# Altium footprint library MLACHT_Z.PCBLIB: 150 footprints (part 10 of 10)
Each footprint in its own frame and in the unit in brackets; x right, y up, seen from the top. Pads: shape width x height; smd on the part's side, far side on the other; paste and mask are expansions set on the pad; w line width, h text height; cw(c..) or ccw(c..) is an arc to the next point about the centre after c.
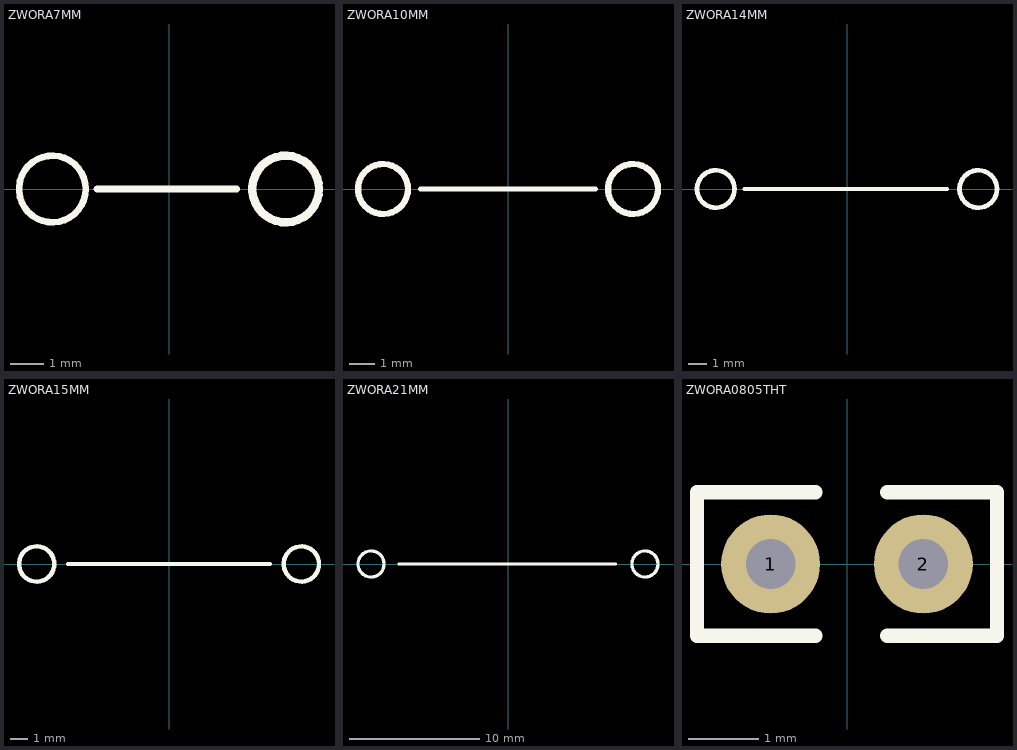
[diagram p9: the footprints below, top view; thin cyan lines are the x and y axes]

## ZWORA7MM [mil]
TopOverlay:
  circle w10: c137.8,0 r39.37
  circle w7.87: c-137.8,0 r39.37
  lines w7.87: -85,0 80,0

## ZWORA10MM [mil]
TopOverlay:
  circle w10: c196.85,0 r39.37
  circle w10: c-196.85,0 r39.37
  lines w7.87: -137.8,0 137.8,0

## ZWORA14MM [mil]
TopOverlay:
  circle w10: c275.59,0 r39.37
  circle w10: c-275.59,0 r39.37
  lines w7.87: -215,0 210,0

## ZWORA15MM [mil]
TopOverlay:
  circle w10: c295.28,0 r39.37
  circle w10: c-295.28,0 r39.37
  lines w7.87: -226.38,0 226.38,0

## ZWORA21MM [mil]
TopOverlay:
  circle w10: c-413.39,0 r39.37
  circle w10: c413.39,0 r39.37
  lines w7.87: -330,0 325,0

## ZWORA0805THT [mm]
pads (2):
  round 1.4 hole 0.7: 1(-1.079,0) 2(1.079,0)
TopOverlay:
  lines w0.203: -0.445,-1.016 -2.121,-1.016 -2.121,1.016 -0.445,1.016 ; 0.572,-1.016 2.121,-1.016 2.121,1.016 0.572,1.016
3D body: height 1.3, standoff 0, extent -0.7,-0.7 0.7,0.7
3D body: height 1.3, standoff 0, extent -1,-0.7 -0.7,0.7
3D body: height 1.3, standoff 0, extent 0.7,-0.7 1,0.7